# Altium footprint library 2.8寸电阻屏.PcbLib: 2 footprints
Each footprint in its own frame and in the unit in brackets; x right, y up, seen from the top. Pads: shape width x height; smd on the part's side, far side on the other; paste and mask are expansions set on the pad; w line width, h text height; cw(c..) or ccw(c..) is an arc to the next point about the centre after c.
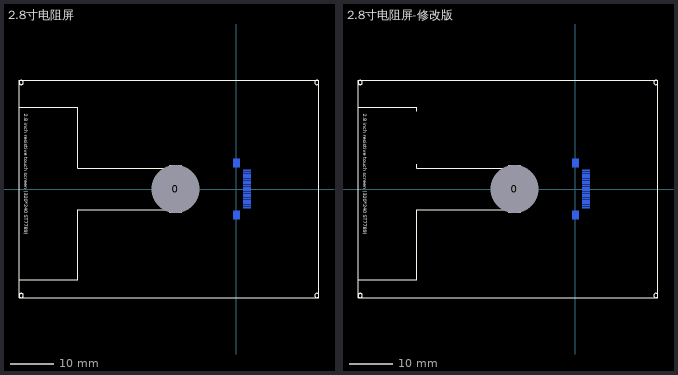
[diagram p0: the footprints below, top view; thin cyan lines are the x and y axes]

## 2.8寸电阻屏 [mm]
pads (21):
  rect 3x11 hole 11 square: 0(-14,0)
  rect 1.8x0.3 smd far side: 1(2.45,4.25) 2(2.45,3.75) 3(2.45,3.25) 4(2.45,2.75) 5(2.45,2.25) 6(2.45,1.75) 7(2.45,1.25) 8(2.45,0.75) 9(2.45,0.25) 10(2.45,-0.25) 11(2.45,-0.75) 12(2.45,-1.25) 13(2.45,-1.75) 14(2.45,-2.25) 15(2.45,-2.75) 16(2.45,-3.25) 17(2.45,-3.75) 18(2.45,-4.25)
  rect 1.5x2 smd far side: 19(0,-5.95) 20(0,5.95)
Top Overlay:
  circle w0.2: c18.52,24.52 r0.5
  circle w0.2: c18.52,-24.52 r0.5
  circle w0.2: c-49.52,-24.52 r0.5
  circle w0.2: c-49.52,24.52 r0.5
  lines w0.254: -50,-20.94 -36.5,-20.94 -36.5,-4.75 -15.8,-4.75 ; -50,18.87 -36.5,18.87 -36.5,4.75 -15.8,4.75 ; -50,-25 19,-25 19,25 -50,25 -50,-25
  text "2.8 inch resistive touch screen (320*240 ST7789)" at -48.822,17.326 h0.8
Bottom Overlay:
  circle w0.254: c3.786,4.263 r0.127
  lines w0.254: -12.2,-4.75 -3.15,-4.75 ; -12.2,4.75 -3.15,4.75 ; -0.981,-6.7 -3.15,-6.7 -3.15,6.7 -0.981,6.7 ; 0.981,-6.7 1.85,-6.7 1.85,-4.631 ; 0.981,6.7 1.85,6.7 1.85,4.631

## 2.8寸电阻屏-修改版 [mm]
pads (21):
  rect 3x11 hole 11 square: 0(-14,0)
  rect 1.8x0.3 smd far side: 1(2.45,4.25) 2(2.45,3.75) 3(2.45,3.25) 4(2.45,2.75) 5(2.45,2.25) 6(2.45,1.75) 7(2.45,1.25) 8(2.45,0.75) 9(2.45,0.25) 10(2.45,-0.25) 11(2.45,-0.75) 12(2.45,-1.25) 13(2.45,-1.75) 14(2.45,-2.25) 15(2.45,-2.75) 16(2.45,-3.25) 17(2.45,-3.75) 18(2.45,-4.25)
  rect 1.5x2 smd far side: 19(0,-5.95) 20(0,5.95)
Top Overlay:
  circle w0.2: c18.52,24.52 r0.5
  circle w0.2: c18.52,-24.52 r0.5
  circle w0.2: c-49.52,-24.52 r0.5
  circle w0.2: c-49.52,24.52 r0.5
  lines w0.254: -50,-20.94 -36.5,-20.94 -36.5,-4.75 -15.8,-4.75 ; -50,18.87 -36.5,18.87 -36.5,17.87 ; -36.5,5.75 -36.5,4.75 -15.8,4.75 ; -50,-25 19,-25 19,25 -50,25 -50,-25
  text "2.8 inch resistive touch screen (320*240 ST7789)" at -48.822,17.326 h0.8
Bottom Overlay:
  circle w0.254: c3.786,4.263 r0.127
  lines w0.254: -12.2,-4.75 -3.15,-4.75 ; -12.2,4.75 -3.15,4.75 ; -0.981,-6.7 -3.15,-6.7 -3.15,6.7 -0.981,6.7 ; 0.981,-6.7 1.85,-6.7 1.85,-4.631 ; 0.981,6.7 1.85,6.7 1.85,4.631